# EAGLE library part ISP_POGO (library digikey)
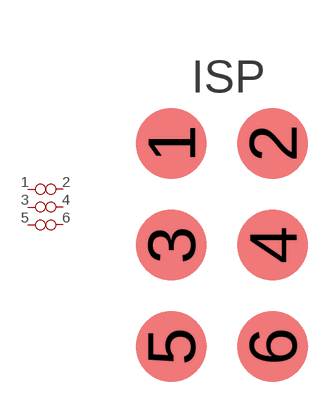
[diagram p7: symbol with the pads of POGO_ISP; footprint POGO_ISP]

Designator prefix -

## ISP_POGO  [POGO_ISP]
1  MISO
2  VCC
3  SCK
4  MOSI
5  RESET
6  GND

## Footprint POGO_ISP (pad centres in mm)
smd 1.778 x 1.778: 1 -1.27,2.54; 2 1.27,2.54; 3 -1.27,0; 4 1.27,0; 5 -1.27,-2.54; 6 1.27,-2.54